# EAGLE library part 687130182122 (library Eagle_FPC_CONNECTOR_AND_FFC_CAB (rev18c))
CONFPCI - 0.5 MM PITCH HORIZONTAL DUAL CONTACT, BACK FLIP ACTUATOR=>Code : ConFPC Characteristics INSULATOR: LCP FLAMABILITY RATING: UL94-V0 COLOUR: IVORY CONTACT MATERIAL: PHOSPHOR BRONZE CONTACT PLATING: 80 μ’’ MAT TIN OVER 50 μ’’ NICKEL CONTACT TYPE: STAMPED TAB MATERIAL: BRASS TAB PLATING: 80 μ’’ MAT TIN OVER 50 μ’’ NICKEL TAB TYPE: STAMPED ACTUATOR MATERIAL: PA9T ACTUATOR COLOUR: BLACK QUALITY CLASS: 20 MATING CYCLES PITCH: 0.50 MM PACKAGING:TAPE AND REEL COMPLIANCE: ROHS AND HALOGEN FREE OPERATING TEMPERATURE: -40°C UP TO +105°C ELECTRICAL CURRENT RATING: 0.5A WORKING VOLTAGE: 50 VAC WITHSTANDING VOLTAGE: 0.25 KVAC/min CONTATC RESISTANCE: 30 mOHM INSULATION RESISTANCE: >500 MΩ <http://katalog.we-online.de/media/images/v2/Family_WR-FPC_687186182122.jpg> 2016 (C) Wurth Elektronik
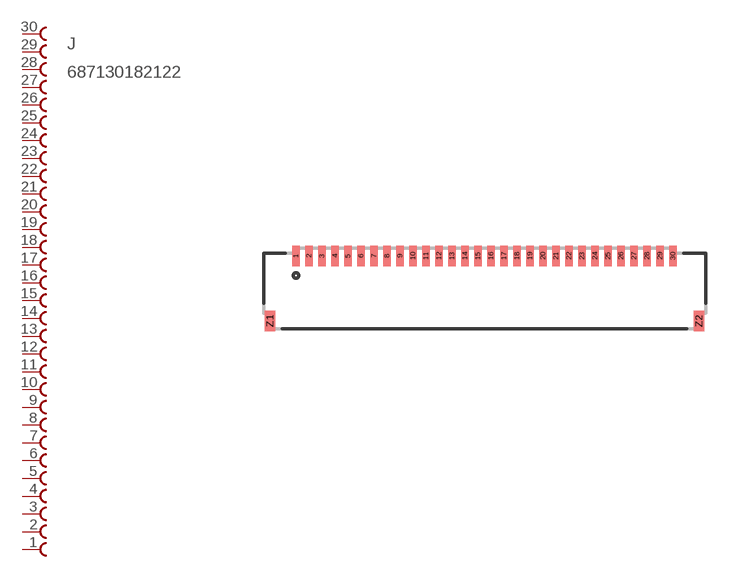
[diagram p141: symbol with the pads of 687130182122; footprint 687130182122]

Designator prefix J

## 687130182122  [687130182122]
1  30  pas
2  29  pas
3  28  pas
4  27  pas
5  26  pas
6  25  pas
7  24  pas
8  23  pas
9  22  pas
10  21  pas
11  20  pas
12  19  pas
13  18  pas
14  17  pas
15  16  pas
16  15  pas
17  14  pas
18  13  pas
19  12  pas
20  11  pas
21  10  pas
22  9  pas
23  8  pas
24  7  pas
25  6  pas
26  5  pas
27  4  pas
28  3  pas
29  2  pas
30  1  pas

## Footprint 687130182122 (pad centres in mm)
smd 0.3 x 0.8: 1 -7.25,1.25; 2 -6.75,1.25; 3 -6.25,1.25; 4 -5.75,1.25; 5 -5.25,1.25; 6 -4.75,1.25; 7 -4.25,1.25; 8 -3.75,1.25; 9 -3.25,1.25; 10 -2.75,1.25; 11 -2.25,1.25; 12 -1.75,1.25; 13 -1.25,1.25; 14 -0.75,1.25; 15 -0.25,1.25; 16 0.25,1.25; 17 0.75,1.25; 18 1.25,1.25; 19 1.75,1.25; 20 2.25,1.25; 21 2.75,1.25; 22 3.25,1.25; 23 3.75,1.25; 24 4.25,1.25; 25 4.75,1.25; 26 5.25,1.25; 27 5.75,1.25; 28 6.25,1.25; 29 6.75,1.25; 30 7.25,1.25
smd 0.4 x 0.8: Z1 -8.25,-1.25; Z2 8.25,-1.25